# Altium footprint library Nixie-pcb-lib.PcbLib: 7 footprints
Each footprint in its own frame and in the unit in brackets; x right, y up, seen from the top. Pads: shape width x height; smd on the part's side, far side on the other; paste and mask are expansions set on the pad; w line width, h text height; cw(c..) or ccw(c..) is an arc to the next point about the centre after c.
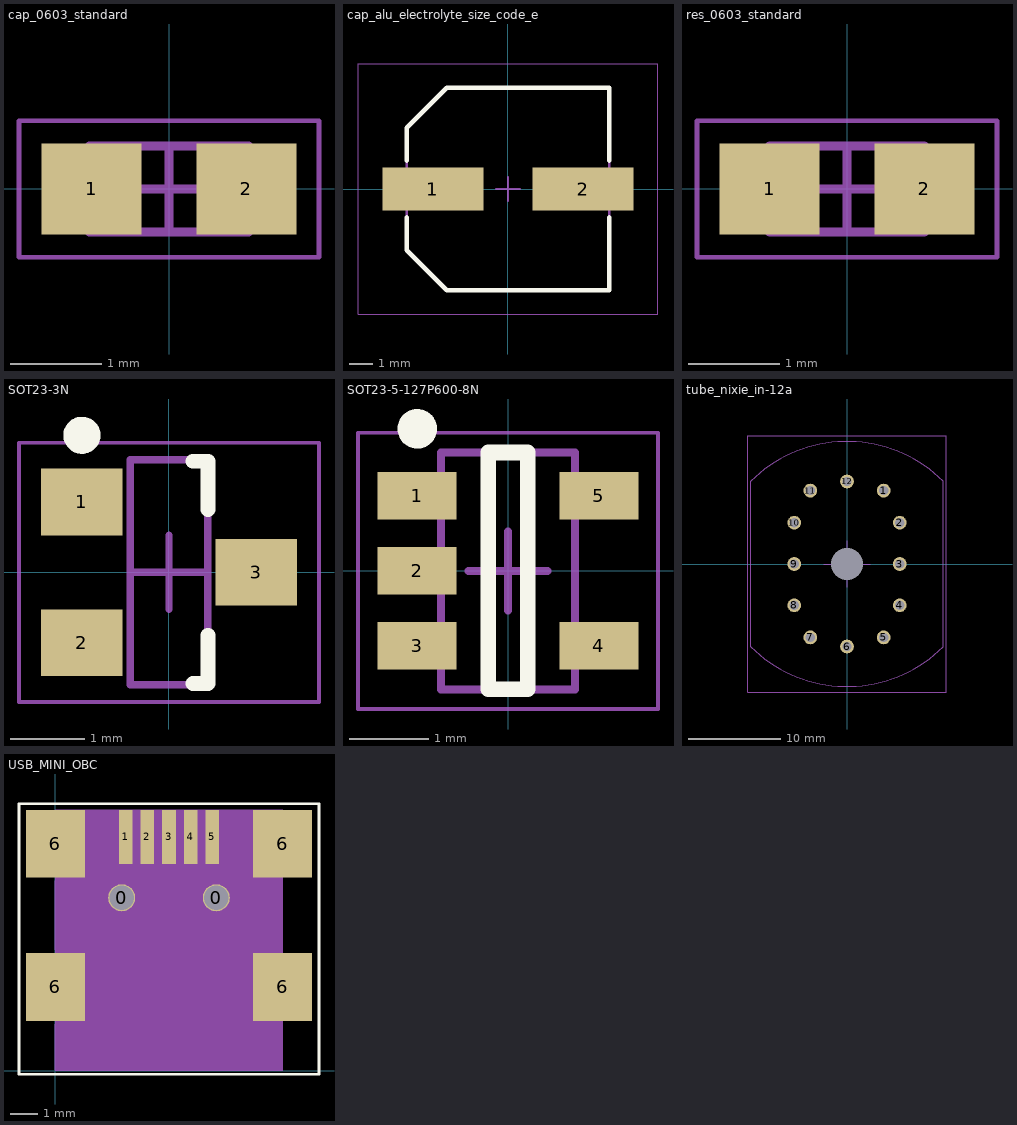
[diagram p0: the footprints below, top view; thin cyan lines are the x and y axes]

## cap_0603_standard [mm] "Generic 0603 chip capacitor (IPC-SM-782)"
height 0.85
pads (2):
  rect 1.1x1 smd: 1(-0.85,0) 2(0.85,0)
Mechanical 13:
  lines w0.1: -0.875,-0.475 -0.875,0.475 0.875,0.475 0.875,-0.475 -0.875,-0.475
Mechanical 15:
  lines w0.05: -1.65,-0.75 -1.65,0.75 1.65,0.75 1.65,-0.75 -1.65,-0.75
  lines w0.1: -0.475,0 0.475,0 ; 0,-0.475 0,0.475
3D body "cap_0603_standard.step": height 0.85, standoff 0, extent -0.875,-0.475 0.875,0.475

## cap_alu_electrolyte_size_code_e [mm] "Aluminum Electrolytic Capacitor, Body 8,30x8,30x8,00mm, IPC Low Density"
height 8
pads (2):
  rect 4.25x1.8 smd: 1(-3.15,0) 2(3.15,0)
Top Overlay:
  lines w0.2: -4.25,-1.2 -4.25,-2.575 -2.575,-4.25 4.25,-4.25 4.25,-1.2 ; -4.25,1.2 -4.25,2.575 -2.575,4.25 4.25,4.25 4.25,1.2
Mechanical 13:
  lines w0.1: -4.25,-2.575 -2.575,-4.25 4.25,-4.25 4.25,4.25 -2.575,4.25 -4.25,2.575 -4.25,-2.575
Mechanical 15:
  lines w0.05: -6.3,-5.25 -6.3,5.25 6.3,5.25 6.3,-5.25 -6.3,-5.25
  lines w0.1: -0.5,0 0.5,0 ; 0,-0.5 0,0.5
3D body "CAPAE9083X80M.step": height 8, standoff 0, extent -4.5,-4.25 4.5,4.25

## res_0603_standard [mm] "Generic 0603 chip resistor (IPC-SM-782)"
height 0.6
pads (2):
  rect 1.1x1 smd: 1(-0.85,0) 2(0.85,0)
Mechanical 13:
  lines w0.1: -0.85,-0.475 -0.85,0.475 0.85,0.475 0.85,-0.475 -0.85,-0.475
Mechanical 15:
  lines w0.05: -1.65,-0.75 -1.65,0.75 1.65,0.75 1.65,-0.75 -1.65,-0.75
  lines w0.1: -0.475,0 0.475,0 ; 0,-0.475 0,0.475
3D body "res_0603_standard.step": height 0.6, standoff 0, extent -0.85,-0.475 0.85,0.475

## SOT23-3N [mm]
height 1.4
pads (3):
  rect 1.1x0.9 smd: 1(-1.175,0.95) 2(-1.175,-0.95) 3(1.175,0)
Top Overlay:
  circle w0.25: c-1.175,1.85 r0.125
  lines w0.2: 0.325,-1.5 0.525,-1.5 0.525,-0.85 ; 0.325,1.5 0.525,1.5 0.525,0.85
Mechanical 13:
  lines w0.1: -0.525,-1.52 -0.525,1.52 0.525,1.52 0.525,-1.52 -0.525,-1.52
Mechanical 15:
  lines w0.05: -2.025,-1.75 -2.025,1.75 2.025,1.75 2.025,-1.75 -2.025,-1.75
  lines w0.1: -0.5,0 0.5,0 ; 0,-0.5 0,0.5
3D body: height 1.4, standoff 0.1, extent -0.525,-1.52 0.525,1.52

## SOT23-5-127P600-8N [mm]
height 1.15
pads (5):
  rect 1x0.6 smd: 1(-1.15,0.95) 2(-1.15,0) 3(-1.15,-0.95) 4(1.15,-0.95) 5(1.15,0.95)
Top Overlay:
  circle w0.25: c-1.15,1.8 r0.125
  lines w0.2: -0.25,-1.5 -0.25,1.5 0.25,1.5 0.25,-1.5 -0.25,-1.5
Mechanical 13:
  lines w0.1: -0.85,-1.5 0.85,-1.5 0.85,1.5 -0.85,1.5 -0.85,-1.5
Mechanical 15:
  lines w0.05: -1.9,-1.75 1.9,-1.75 1.9,1.75 -1.9,1.75 -1.9,-1.75
  lines w0.1: -0.5,0 0.5,0 ; 0,-0.5 0,0.5
3D body: height 1.15, standoff 0.08, extent -0.85,-1.5 0.85,1.5

## tube_nixie_in-12a [mm] "IN-12A/IN-12B/IN-15A/IN-15B Nixie tube"
height 28
pads (13):
  round 0 hole 3.5 unplated: 0(0,0)
  round 1.5 hole 1: 1(4,8) 2(5.75,4.5) 3(5.75,0) 4(5.75,-4.5) 5(4,-8) 6(0,-9) 7(-4,-8) 8(-5.75,-4.5) 9(-5.75,0) 10(-5.75,4.5) 11(-4,8) 12(0,9)
Mechanical 1:
  lines w0.1: -10.5,-9 ccw(c0,1.5) 10.5,-9 10.5,9 ccw(c0,-1.5) -10.5,9 -10.5,-9
Mechanical 15:
  lines w0.05: -10.795,-13.97 10.795,-13.97 10.795,13.97 -10.795,13.97 -10.795,-13.97
  lines w0.1: -2.54,0 0,0 ; 0,-2.54 0,0 ; 0,2.54 0,0 ; 2.54,0 0,0
3D body "IN-12A.stp": height 28, standoff -7, extent -10.5,-15.5 10.5,15.5

## USB_MINI_OBC [mm]
pads (11):
  round 1 / inner round 1.524 / far side round 1 hole 0.9 unplated: 0(2.45,6.4) 0(5.95,6.4)
  rect 0.5x2 smd: 1(2.6,8.65) 2(3.4,8.65) 3(4.2,8.65) 4(5,8.65) 5(5.8,8.65)
  rect 2.2x2.5 smd: 6(0,3.1) 6(0,8.4) 6(8.4,3.1) 6(8.4,8.4)
Top Overlay:
  lines w0.1: -1.35,-0.125 9.75,-0.125 9.75,9.875 -1.35,9.875 -1.35,-0.125
Mechanical 4:
  lines w0.025: 0,1.713 0,0.325 0,0.025 8.4,0.025 8.4,1.713 ; 0,4.475 0,7.025 ; 1.225,8.925 2.238,8.925 ; 2.962,8.925 3.038,8.925 ; 3.762,8.925 3.838,8.925 ; 4.562,8.925 4.638,8.925 ; 5.362,8.925 5.438,8.925 ; 6.162,8.925 7.175,8.925 ; 8.4,4.475 8.4,7.025
Mechanical 8:
  text "5" at 5.8,7.296 h0.64
  text "6" at 8.65,7.296 h0.64
  text "7" at 8.65,1.846 h0.64
  text "8" at -0.25,7.296 h0.64
  text "9" at -0.25,1.846 h0.64
  text "3" at 4.2,7.296 h0.64
  text "2" at 3.4,7.296 h0.64
  text "1" at 2.6,7.296 h0.64
  text "4" at 5,7.296 h0.64
Mechanical 15:
  region: 0,0 0,9.65 8.4,9.65 8.4,0
3D body "USB_Mini_B_SMD_buchse.STEP": height 3.95, standoff -0.01, extent -0.8,-0.225 9.2,8.675